# Altium integrated library v4.2.1 Embutida.IntLib: 2 symbols
Pins are listed as number, name and electrical type; pins without a type are passive.

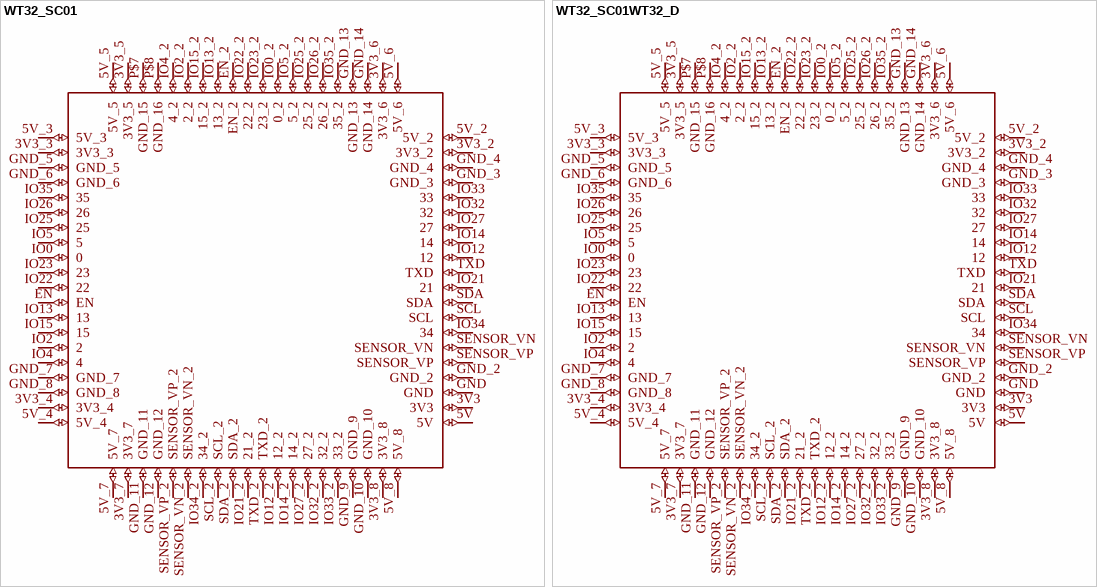
[diagram p0: symbols WT32_SC01 to WT32_SC01WT32_D]

## WT32_SC01
designator ?
GateName_1: G$1; SymbolName_1: WT32_DUPLICATED; DeviceSetName: WT32_SC01; LibraryName: WT32_SC01; Package: WT32
footprint WT32
pins: 3V3 (io), 3V3_2 (io), 3V3_3 (io), 3V3_4 (io), 3V3_5 (io), 3V3_6 (io), 3V3_7 (io), 3V3_8 (io), 5V (io), 5V_2 (io), 5V_3 (io), 5V_4 (io), 5V_5 (io), 5V_6 (io), 5V_7 (io), 5V_8 (io), EN (io), EN_2 (io), GND (io), GND_2 (io), GND_3 (io), GND_4 (io), GND_5 (io), GND_6 (io), GND_7 (io), GND_8 (io), GND_9 (io), GND_10 (io), GND_11 (io), GND_12 (io), GND_13 (io), GND_14 (io), IO0 0 (io), IO0_2 0_2 (io), IO2 2 (io), IO2_2 2_2 (io), IO4 4 (io), IO4_2 4_2 (io), IO5 5 (io), IO5_2 5_2 (io), IO12 12 (io), IO12_2 12_2 (io), IO13 13 (io), IO13_2 13_2 (io), IO14 14 (io), IO14_2 14_2 (io), IO15 15 (io), IO15_2 15_2 (io), IO21 21 (io), IO21_2 21_2 (io), IO22 22 (io), IO22_2 22_2 (io), IO23 23 (io), IO23_2 23_2 (io), IO25 25 (io), IO25_2 25_2 (io), IO26 26 (io), IO26_2 26_2 (io), IO27 27 (io), IO27_2 27_2 (io), IO32 32 (io), IO32_2 32_2 (io), IO33 33 (io), IO33_2 33_2 (io), IO34 34 (io), IO34_2 34_2 (io), IO35 35 (io), IO35_2 35_2 (io), P$7 GND_15 (io), P$8 GND_16 (io), SCL (io), SCL_2 (io), SDA (io), SDA_2 (io), SENSOR_VN (io), SENSOR_VN_2 (io), SENSOR_VP (io), SENSOR_VP_2 (io), TXD (io), TXD_2 (io)

## WT32_SC01WT32_D
designator ?
GateName_1: G$1; SymbolName_1: WT32_DUPLICATED; DeviceName: WT32_D; DeviceSetName: WT32_SC01; LibraryName: WT32_SC01; Package: WT32_DUPLICATED
footprint WT32_DUPLICATED
pins: 3V3 (io), 3V3_2 (io), 3V3_3 (io), 3V3_4 (io), 3V3_5 (io), 3V3_6 (io), 3V3_7 (io), 3V3_8 (io), 5V (io), 5V_2 (io), 5V_3 (io), 5V_4 (io), 5V_5 (io), 5V_6 (io), 5V_7 (io), 5V_8 (io), EN (io), EN_2 (io), GND (io), GND_2 (io), GND_3 (io), GND_4 (io), GND_5 (io), GND_6 (io), GND_7 (io), GND_8 (io), GND_9 (io), GND_10 (io), GND_11 (io), GND_12 (io), GND_13 (io), GND_14 (io), IO0 0 (io), IO0_2 0_2 (io), IO2 2 (io), IO2_2 2_2 (io), IO4 4 (io), IO4_2 4_2 (io), IO5 5 (io), IO5_2 5_2 (io), IO12 12 (io), IO12_2 12_2 (io), IO13 13 (io), IO13_2 13_2 (io), IO14 14 (io), IO14_2 14_2 (io), IO15 15 (io), IO15_2 15_2 (io), IO21 21 (io), IO21_2 21_2 (io), IO22 22 (io), IO22_2 22_2 (io), IO23 23 (io), IO23_2 23_2 (io), IO25 25 (io), IO25_2 25_2 (io), IO26 26 (io), IO26_2 26_2 (io), IO27 27 (io), IO27_2 27_2 (io), IO32 32 (io), IO32_2 32_2 (io), IO33 33 (io), IO33_2 33_2 (io), IO34 34 (io), IO34_2 34_2 (io), IO35 35 (io), IO35_2 35_2 (io), P$7 GND_15 (io), P$8 GND_16 (io), SCL (io), SCL_2 (io), SDA (io), SDA_2 (io), SENSOR_VN (io), SENSOR_VN_2 (io), SENSOR_VP (io), SENSOR_VP_2 (io), TXD (io), TXD_2 (io)